# EAGLE library part ALS-PDIC17-77B (library optocoupler)
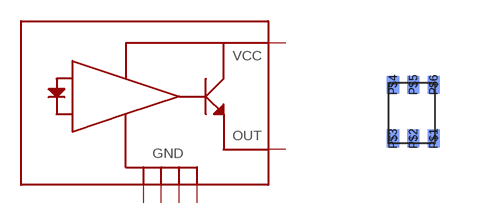
[diagram p46: symbol with the pads of ALS-PDIC17-77B; footprint ALS-PDIC17-77B]

Designator prefix -

## ALS-PDIC17-77B  [ALS-PDIC17-77B]
P$1  P$1
P$2  P$2
P$3  P$3
P$4  P$4
P$5  P$5
P$6  P$6

## Footprint ALS-PDIC17-77B (pad centres in mm)
smd 0.3 x 0.45 bottom: P$1 0.483,-0.635; P$2 -0.025,-0.635; P$3 -0.533,-0.635; P$4 -0.533,0.711; P$5 -0.025,0.711; P$6 0.483,0.711